# EAGLE library part LA6585MC (library SophiEaglev9)
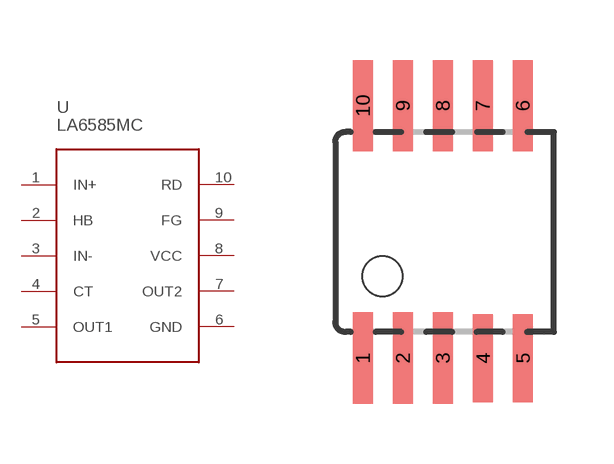
[diagram p0: symbol with the pads of SOIC10; footprint SOIC10]

Designator prefix -

## LA6585MC  [SOIC10]
1  IN+
2  HB
3  IN-
4  CT
5  OUT1
6  GND
7  OUT2
8  VCC
9  FG
10  RD

## Footprint SOIC10 (pad centres in mm)
smd 0.508 x 2.286: 1 -3.175,-3.154; 2 -2.175,-3.154; 3 -1.175,-3.154; 6 0.825,3.154; 7 -0.175,3.154; 8 -1.175,3.154; 9 -2.175,3.154; 10 -3.175,3.154
smd 0.5 x 2.2: 4 -0.175,-3.154; 5 0.825,-3.154